# Altium schematic symbol library KLDX-0202-B.SchLib: 2 symbols
Pins are listed as number, name and electrical type; pins without a type are passive.

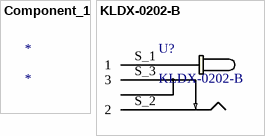
[diagram p0: symbols Component_1 to KLDX-0202-B]

## Component_1
designator *

## KLDX-0202-B
designator U?
No Description Available; Mfr_Name: KYCON, INC.; Copyright: Copyright (C) 2022 Ultra Librarian. All rights reserved.; Manufacturer_Part_Number: KLDX-0202-B; Digi-Key_Part_Number_1: 2092-KLDX-0202-B-ND; RefDes: RefDes; Type: DEV
footprint KLDX-0202-B_KYC
pins: ?1, S_1 1, S_2 2, S_3 3